# Altium footprint library Common_SMD.PcbLib: 74 footprints (part 1 of 5)
Each footprint in its own frame and in the unit in brackets; x right, y up, seen from the top. Pads: shape width x height; smd on the part's side, far side on the other; paste and mask are expansions set on the pad; w line width, h text height; cw(c..) or ccw(c..) is an arc to the next point about the centre after c.
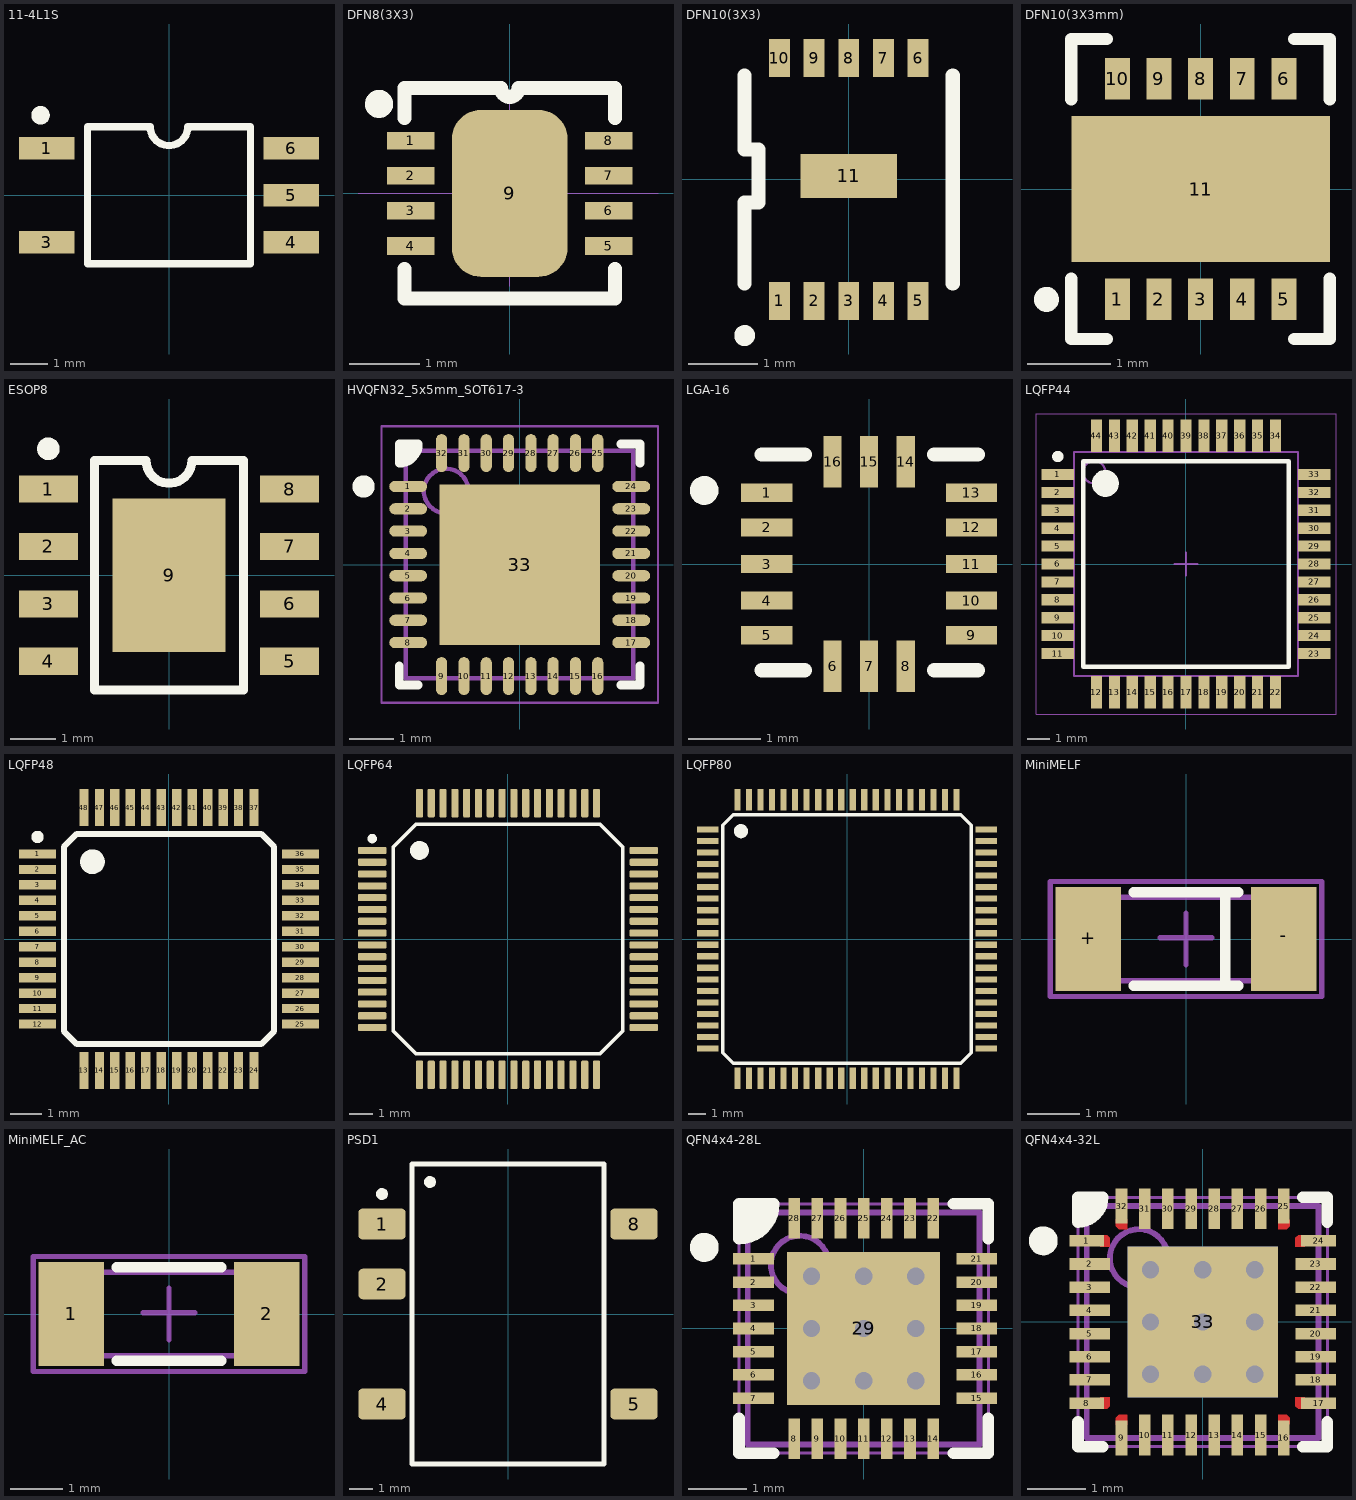
[diagram p0: the footprints below, top view; thin cyan lines are the x and y axes]

## 11-4L1S [mm]
pads (5):
  rect 1.5x0.6 smd: 1(-3.3,1.27) 3(-3.3,-1.27) 4(3.3,-1.27) 5(3.3,0) 6(3.3,1.27)
Top Overlay:
  circle w0.25: c-3.468,2.159 r0.125
  lines w0.2: 2.2,1.815 2.2,-1.85 -2.2,-1.85 -2.2,1.85 -0.508,1.85 ccw(c0,1.85) 0.508,1.85 2.2,1.85
3D body "TLP2361.step": height 2.2, standoff 0, extent -3.514,-1.9 3.514,1.9

## DFN8(3X3) [mm] "8-Lead Plastic DFN (3mm ? 3mm)"
height 0.75
pads (9):
  rect 0.675x0.25 smd: 1(-1.412,0.75) 2(-1.412,0.25) 3(-1.412,-0.25) 4(-1.412,-0.75) 5(1.413,-0.75) 6(1.413,-0.25) 7(1.413,0.25) 8(1.413,0.75)
  rrect50% 1.65x2.38 smd: 9(0,0)
Top Overlay:
  lines w0.2: -1.792,1.346 ccw(c-1.862,1.275) -1.779,1.33 ; -1.502,1.5 -0.15,1.5 ; -1.5,-1.075 -1.5,-1.5 1.5,-1.5 1.5,-1.075 ; -1.5,1.075 -1.5,1.5 ; -0.125,1.5 ccw(c0,1.5) 0.125,1.5 ; 0.15,1.5 1.488,1.5 ; 1.5,1.075 1.5,1.5
Mechanical 15:
  lines w0.01: -2.163,0 2.113,0 ; 0,-1.325 0,1.35
3D body "User Library-DFN-8.STEP": height 0.8, standoff 0, extent -1.51,-1.488 1.51,1.512

## DFN10(3X3) [mm] "DFN10 (3x3) PACKAGE"
height 1
pads (11):
  rect 0.3x0.55 smd: 1(-1,-1.75) 2(-0.5,-1.75) 3(0,-1.75) 4(0.5,-1.75) 5(1,-1.75) 6(1,1.75) 7(0.5,1.75) 8(0,1.75) 9(-0.5,1.75) 10(-1,1.75)
  rect 1.39x0.63 smd: 11(0,0.05)
Top Overlay:
  circle w0.2: c-1.5,-2.25 r0.05
  lines w0.203: -1.5,-1.5 -1.5,-0.331 -1.3,-0.331 -1.3,0.431 -1.5,0.431 -1.5,1.5 ; 1.5,-1.5 1.5,1.5
3D body: height 1, standoff 0, extent -1.5,-1.5 1.5,1.5

## DFN10(3X3mm) [mm] "DFN10 3x3mm STBB1-AXX (ST)"
height 1
pads (11):
  rect 0.3x0.5 smd mask+0.08: 1(-1,-1.325) 2(-0.5,-1.325) 3(0,-1.325) 4(0.5,-1.325) 5(1,-1.325) 6(1,1.325) 7(0.5,1.325) 8(0,1.325) 9(-0.5,1.325) 10(-1,1.325)
  rect 3.1x1.75 smd mask+0.08: 11(0,0)
Top Overlay:
  circle w0.2: c-1.85,-1.325 r0.05
  lines w0.15: -1.55,-1.075 -1.55,-1.8 -1.125,-1.8 ; -1.55,1.075 -1.55,1.8 -1.125,1.8 ; 1.125,-1.8 1.55,-1.8 1.55,-1.075 ; 1.125,1.8 1.55,1.8 1.55,1.075
3D body "DFN10(3x3).STEP": height 0.76, standoff 0, extent -1.5,-1.501 1.5,1.501

## ESOP8 [mm] "SOIC, 8-Leads, Body 4.9x3.9mm, Pitch 1.27mm"
height 1.75
pads (9):
  rect 1.3x0.6 smd: 1(-2.667,1.905) 2(-2.667,0.635) 3(-2.667,-0.635) 4(-2.667,-1.905) 5(2.667,-1.905) 6(2.667,-0.635) 7(2.667,0.635) 8(2.667,1.905)
  rect 2.5x3.4 smd: 9(0,0)
Top Overlay:
  circle w0.25: c-2.667,2.794 r0.125
  lines w0.2: -1.651,-2.54 -1.651,2.54 -0.508,2.54 ccw(c0,2.54) 0.508,2.54 1.651,2.54 1.651,-2.54 -1.651,-2.54
Mechanical 15:
  lines w0.05: -0.3,0 0.3,0 ; 0,-0.3 0,0.3
3D body "SO-8.STEP": height 1.45, standoff 0, extent -2.972,-2.45 2.972,2.452

## HVQFN32_5x5mm_SOT617-3 [mm] "HVQFN, 32-Leads, Body 5.00x5.00mm, Pitch 0.50mm, Thermal Pad 3.60x3.60mm, IPC Medium Density (Vanchik for ESP8266EX)"
height 0.85
pads (33):
  oval 0.85x0.25 smd: 1(-2.5,1.75) 2(-2.5,1.25) 3(-2.5,0.75) 4(-2.5,0.25) 5(-2.5,-0.25) 6(-2.5,-0.75) 7(-2.5,-1.25) 8(-2.5,-1.75) 17(2.5,-1.75) 18(2.5,-1.25) 19(2.5,-0.75) 20(2.5,-0.25) 21(2.5,0.25) 22(2.5,0.75) 23(2.5,1.25) 24(2.5,1.75)
  oval 0.25x0.85 smd: 9(-1.75,-2.5) 10(-1.25,-2.5) 11(-0.75,-2.5) 12(-0.25,-2.5) 13(0.25,-2.5) 14(0.75,-2.5) 15(1.25,-2.5) 16(1.75,-2.5) 25(1.75,2.5) 26(1.25,2.5) 27(0.75,2.5) 28(0.25,2.5) 29(-0.25,2.5) 30(-0.75,2.5) 31(-1.25,2.5) 32(-1.75,2.5)
  rect 3.6x3.6 smd: 33(0,0)
Top Overlay:
  circle w0.25: c-3.5,1.75 r0.125
  region: -2.7,2.7 -2.275,2.7 -2.275,2.551 -2.551,2.275 -2.7,2.275
  lines w0.2: -2.7,-2.275 -2.7,-2.7 -2.275,-2.7 ; 2.275,-2.7 2.7,-2.7 2.7,-2.275 ; 2.275,2.7 2.7,2.7 2.7,2.275 ; -2.7,2.275 ccw(c-2.7,2.7) -2.275,2.7 -2.7,2.7 -2.7,2.275
Mechanical 13:
  circle w0.1: c-1.65,1.65 r0.5
  lines w0.1: -2.55,-2.55 2.55,-2.55 2.55,2.55 -2.55,2.55 -2.55,-2.55
Mechanical 15:
  lines w0.05: -3.1,-3.1 3.1,-3.1 3.1,3.1 -3.1,3.1 -3.1,-3.1
  lines w0.1: -0.5,0 0.5,0 ; 0,-0.5 0,0.5
3D body: height 0.85, standoff 0, extent -2.55,-2.55 2.55,2.55

## LGA-16 [mil]
height 39.37
pads (16):
  rect 28x10 smd: 1(-56,39) 2(-56,20) 3(-56,0) 4(-56,-20) 5(-56,-39) 9(56,-39) 10(56,-20) 11(56,0) 12(56,20) 13(56,39)
  rect 10x28 smd: 6(-20,-56) 7(0,-56) 8(20,-56) 14(20,56) 15(0,56) 16(-20,56)
Top Overlay:
  circle w7.87: c-90.24,40.25 r3.94
  lines w7.87: -58.74,-58.17 -35.12,-58.17 ; -58.74,59.94 -35.12,59.94 ; 35.75,-58.17 59.37,-58.17 ; 35.75,59.94 59.37,59.94
3D body: height 39.37, standoff 0, extent -58.74,-58.17 59.37,59.94

## LQFP44 [mm]
height 1.6
pads (44):
  rect 1.45x0.5 smd: 1(-5.725,4) 2(-5.725,3.2) 3(-5.725,2.4) 4(-5.725,1.6) 5(-5.725,0.8) 6(-5.725,0) 7(-5.725,-0.8) 8(-5.725,-1.6) 9(-5.725,-2.4) 10(-5.725,-3.2) 11(-5.725,-4) 23(5.725,-4) 24(5.725,-3.2) 25(5.725,-2.4) 26(5.725,-1.6) 27(5.725,-0.8) 28(5.725,0) 29(5.725,0.8) 30(5.725,1.6) 31(5.725,2.4) 32(5.725,3.2) 33(5.725,4)
  rect 0.5x1.45 smd: 12(-4,-5.725) 13(-3.2,-5.725) 14(-2.4,-5.725) 15(-1.6,-5.725) 16(-0.8,-5.725) 17(0,-5.725) 18(0.8,-5.725) 19(1.6,-5.725) 20(2.4,-5.725) 21(3.2,-5.725) 22(4,-5.725) 34(4,5.725) 35(3.2,5.725) 36(2.4,5.725) 37(1.6,5.725) 38(0.8,5.725) 39(0,5.725) 40(-0.8,5.725) 41(-1.6,5.725) 42(-2.4,5.725) 43(-3.2,5.725) 44(-4,5.725)
Top Overlay:
  circle w0.25: c-5.725,4.8 r0.125
  circle w0.6: c-3.6,3.6 r0.3
  lines w0.2: -4.6,-4.6 -4.6,4.6 4.6,4.6 4.6,-4.6 -4.6,-4.6
Top Assembly:
  circle w0.1: c-4.1,4.1 r0.5
  lines w0.1: -5,-5 -5,5 5,5 5,-5 -5,-5
Top Courtyard:
  lines w0.05: -6.7,-6.7 -6.7,6.7 6.7,6.7 6.7,-6.7 -6.7,-6.7
  lines w0.1: -0.5,0 0.5,0 ; 0,-0.5 0,0.5
3D body: height 1.6, standoff 0.05, extent -5,-5 5,5

## LQFP48 [mm]
height 1
pads (48):
  rect 1.2x0.3 smd mask+0.05: 1(-4.25,2.75) 2(-4.25,2.25) 3(-4.25,1.75) 4(-4.25,1.25) 5(-4.25,0.75) 6(-4.25,0.25) 7(-4.25,-0.25) 8(-4.25,-0.75) 9(-4.25,-1.25) 10(-4.25,-1.75) 11(-4.25,-2.25) 12(-4.25,-2.75) 25(4.25,-2.75) 26(4.25,-2.25) 27(4.25,-1.75) 28(4.25,-1.25) 29(4.25,-0.75) 30(4.25,-0.25) 31(4.25,0.25) 32(4.25,0.75) 33(4.25,1.25) 34(4.25,1.75) 35(4.25,2.25) 36(4.25,2.75)
  rect 0.3x1.2 smd mask+0.05: 13(-2.75,-4.25) 14(-2.25,-4.25) 15(-1.75,-4.25) 16(-1.25,-4.25) 17(-0.75,-4.25) 18(-0.25,-4.25) 19(0.25,-4.25) 20(0.75,-4.25) 21(1.25,-4.25) 22(1.75,-4.25) 23(2.25,-4.25) 24(2.75,-4.25) 37(2.75,4.25) 38(2.25,4.25) 39(1.75,4.25) 40(1.25,4.25) 41(0.75,4.25) 42(0.25,4.25) 43(-0.25,4.25) 44(-0.75,4.25) 45(-1.25,4.25) 46(-1.75,4.25) 47(-2.25,4.25) 48(-2.75,4.25)
Top Overlay:
  circle w0.4: c-2.475,2.5 r0.2
  circle w0.2: c-4.25,3.3 r0.1
  lines w0.2: -3.4,-2.975 -3.4,2.975 -2.975,3.4 2.975,3.4 3.4,2.975 3.4,-2.975 2.975,-3.4 -2.975,-3.4 -3.4,-2.975
3D body "LQFP48 7x7 0.5.STEP": height 1.5, standoff 0, extent -4.5,-4.5 4.5,4.5

## LQFP64 [mm]
height 1
pads (64):
  rrect30% 1.2x0.3 smd mask+0.08: 1(-5.75,3.75) 2(-5.75,3.25) 3(-5.75,2.75) 4(-5.75,2.25) 5(-5.75,1.75) 6(-5.75,1.25) 7(-5.75,0.75) 8(-5.75,0.25) 9(-5.75,-0.25) 10(-5.75,-0.75) 11(-5.75,-1.25) 12(-5.75,-1.75) 13(-5.75,-2.25) 14(-5.75,-2.75) 15(-5.75,-3.25) 16(-5.75,-3.75) 33(5.75,-3.75) 34(5.75,-3.25) 35(5.75,-2.75) 36(5.75,-2.25) 37(5.75,-1.75) 38(5.75,-1.25) 39(5.75,-0.75) 40(5.75,-0.25) 41(5.75,0.25) 42(5.75,0.75) 43(5.75,1.25) 44(5.75,1.75) 45(5.75,2.25) 46(5.75,2.75) 47(5.75,3.25) 48(5.75,3.75)
  rrect30% 0.3x1.2 smd mask+0.08: 17(-3.75,-5.75) 18(-3.25,-5.75) 19(-2.75,-5.75) 20(-2.25,-5.75) 21(-1.75,-5.75) 22(-1.25,-5.75) 23(-0.75,-5.75) 24(-0.25,-5.75) 25(0.25,-5.75) 26(0.75,-5.75) 27(1.25,-5.75) 28(1.75,-5.75) 29(2.25,-5.75) 30(2.75,-5.75) 31(3.25,-5.75) 32(3.75,-5.75) 49(3.75,5.75) 50(3.25,5.75) 51(2.75,5.75) 52(2.25,5.75) 53(1.75,5.75) 54(1.25,5.75) 55(0.75,5.75) 56(0.25,5.75) 57(-0.25,5.75) 58(-0.75,5.75) 59(-1.25,5.75) 60(-1.75,5.75) 61(-2.25,5.75) 62(-2.75,5.75) 63(-3.25,5.75) 64(-3.75,5.75)
Top Overlay:
  circle w0.2: c-5.75,4.25 r0.1
  circle w0.4: c-3.75,3.75 r0.2
  lines w0.15: -4.85,-3.9 -4.85,3.9 -3.9,4.85 3.9,4.85 4.85,3.9 4.85,-3.9 3.9,-4.85 -3.9,-4.85 -4.85,-3.9
3D body "LQFP64_10x10.STEP": height 1.5, standoff 0.02, extent -6,-6 6,6

## LQFP80 [mm]
height 1
pads (80):
  rect 1.2x0.35 smd: 1(-7.85,6.175) 2(-7.85,5.525) 3(-7.85,4.875) 4(-7.85,4.225) 5(-7.85,3.575) 6(-7.85,2.925) 7(-7.85,2.275) 8(-7.85,1.625) 9(-7.85,0.975) 10(-7.85,0.325) 11(-7.85,-0.325) 12(-7.85,-0.975) 13(-7.85,-1.625) 14(-7.85,-2.275) 15(-7.85,-2.925) 16(-7.85,-3.575) 17(-7.85,-4.225) 18(-7.85,-4.875) 19(-7.85,-5.525) 20(-7.85,-6.175) 41(7.85,-6.175) 42(7.85,-5.525) 43(7.85,-4.875) 44(7.85,-4.225) 45(7.85,-3.575) 46(7.85,-2.925) 47(7.85,-2.275) 48(7.85,-1.625) 49(7.85,-0.975) 50(7.85,-0.325) 51(7.85,0.325) 52(7.85,0.975) 53(7.85,1.625) 54(7.85,2.275) 55(7.85,2.925) 56(7.85,3.575) 57(7.85,4.225) 58(7.85,4.875) 59(7.85,5.525) 60(7.85,6.175)
  rect 0.35x1.2 smd: 21(-6.175,-7.85) 22(-5.525,-7.85) 23(-4.875,-7.85) 24(-4.225,-7.85) 25(-3.575,-7.85) 26(-2.925,-7.85) 27(-2.275,-7.85) 28(-1.625,-7.85) 29(-0.975,-7.85) 30(-0.325,-7.85) 31(0.325,-7.85) 32(0.975,-7.85) 33(1.625,-7.85) 34(2.275,-7.85) 35(2.925,-7.85) 36(3.575,-7.85) 37(4.225,-7.85) 38(4.875,-7.85) 39(5.525,-7.85) 40(6.175,-7.85) 61(6.175,7.85) 62(5.525,7.85) 63(4.875,7.85) 64(4.225,7.85) 65(3.575,7.85) 66(2.925,7.85) 67(2.275,7.85) 68(1.625,7.85) 69(0.975,7.85) 70(0.325,7.85) 71(-0.325,7.85) 72(-0.975,7.85) 73(-1.625,7.85) 74(-2.275,7.85) 75(-2.925,7.85) 76(-3.575,7.85) 77(-4.225,7.85) 78(-4.875,7.85) 79(-5.525,7.85) 80(-6.175,7.85)
Top Overlay:
  circle w0.4: c-5.975,6.075 r0.2
  lines w0.2: -7,-6.4 -7,6.4 -6.4,7 6.4,7 7,6.4 7,-6.4 6.4,-7 -6.4,-7 -7,-6.4
3D body "LQFP-80 14x14 0.65.STEP": height 1.6, standoff 0, extent -8.009,-8 8,8.009

## MiniMELF [mm] "Chip Capacitor, Body 3.2x1.6mm, IPC High Density"
height 1.7
pads (2):
  rect 1.25x2 smd: +(-1.875,0) -(1.875,0)
Top Overlay:
  lines w0.2: -1,-0.9 1,-0.9 ; -1,0.9 1,0.9 ; 0.75,-0.9 0.75,0.9
Mechanical 13:
  lines w0.1: -1.85,-0.8 1.85,-0.8 1.85,0.8 -1.85,0.8 -1.85,-0.8
Mechanical 15:
  lines w0.1: -0.5,0.025 0.5,0.025 ; 0,-0.5 0,0.5 ; -2.6,-1.1 2.6,-1.1 2.6,1.1 -2.6,1.1 -2.6,-1.1
3D body "MiniMelf-2.STEP": height 1.6, standoff 0, extent -1.82,-0.8 1.88,0.8

## MiniMELF_AC [mm] "Chip Capacitor, Body 3.2x1.6mm, IPC High Density"
height 1.7
pads (2):
  rect 1.25x2 smd: 1(-1.875,0) 2(1.875,0)
Top Overlay:
  lines w0.2: -1,-0.9 1,-0.9 ; -1,0.9 1,0.9
Mechanical 13:
  lines w0.1: -1.85,-0.8 1.85,-0.8 1.85,0.8 -1.85,0.8 -1.85,-0.8
Mechanical 15:
  lines w0.1: -0.5,0.025 0.5,0.025 ; 0,-0.5 0,0.5 ; -2.6,-1.1 2.6,-1.1 2.6,1.1 -2.6,1.1 -2.6,-1.1
3D body "MiniMelf-2.STEP": height 1.6, standoff 0, extent -1.82,-0.8 1.88,0.8

## PSD1 [mm] "Ultra miniature SMD 5-pin case, Body 12.7x8.3mm, Pitch 2.54mm"
height 7.25
pads (5):
  rrect25% 2x1.3 smd: 1(-5.334,3.81) 4(-5.334,-3.81) 5(5.334,-3.81) 8(5.334,3.81)
  rrect30% 2x1.3 smd: 2(-5.334,1.27)
Top Overlay:
  circle w0.25: c-5.334,5.08 r0.125
  circle w0.25: c-3.302,5.588 r0.125
  lines w0.2: -4.064,-6.35 4.064,-6.35 4.064,6.35 -4.064,6.35 -4.064,-6.35
3D body "PEAK PSD1.STEP": height 6.25, standoff 0, extent -5.6,-6.35 5.6,6.35

## QFN4x4-28L [mm]
pads (29):
  rect 0.7x0.2 smd: 1(-1.9,1.2) 2(-1.9,0.8) 3(-1.9,0.4) 4(-1.9,0) 5(-1.9,-0.4) 6(-1.9,-0.8) 7(-1.9,-1.2) 15(1.95,-1.2) 16(1.95,-0.8) 17(1.95,-0.4) 18(1.95,0) 19(1.95,0.4) 20(1.95,0.8) 21(1.95,1.2)
  rect 0.2x0.7 smd: 8(-1.2,-1.9) 9(-0.8,-1.9) 10(-0.4,-1.9) 11(0,-1.9) 12(0.4,-1.9) 13(0.8,-1.9) 14(1.2,-1.9) 22(1.2,1.9) 23(0.8,1.9) 24(0.4,1.9) 25(0,1.9) 26(-0.4,1.9) 27(-0.8,1.9) 28(-1.2,1.9)
  rect 2.64x2.64 smd: 29(0,0)
via -0.9,0.9 diameter 0.5 hole 0.3
via 0.9,0.9 diameter 0.5 hole 0.3
via 0.9,-0.9 diameter 0.5 hole 0.3
via -0.9,-0.9 diameter 0.5 hole 0.3
via 0,0 diameter 0.5 hole 0.3
via 0,-0.9 diameter 0.5 hole 0.3
via -0.9,0 diameter 0.5 hole 0.3
via 0.9,0 diameter 0.5 hole 0.3
via 0,0.9 diameter 0.5 hole 0.3
Bottom Layer:
  rectangle: -1.3,-1.3 1.3,1.3
Top Overlay:
  circle w0.25: c-2.75,1.4 r0.125
  region: -2.15,2.15 -1.6,2.15 -1.6,1.9 -1.9,1.6 -2.15,1.6
  lines w0.2: -2.15,-1.55 -2.15,-2.15 -1.55,-2.15 ; 1.55,-2.15 2.15,-2.15 2.15,-1.55 ; 1.55,2.15 2.15,2.15 2.15,1.55 ; -2.15,1.55 ccw(c-2.15,2.15) -1.55,2.15 -2.15,2.15 -2.15,1.55
Mechanical 13:
  circle w0.1: c-1.1,1.1 r0.5
  lines w0.1: -2,-2 2,-2 2,2 -2,2 -2,-2
Mechanical 15:
  lines w0.05: -2.15,-2.15 -2.15,2.15 2.15,2.15 2.15,-2.15 -2.15,-2.15
  lines w0.1: -0.5,0 0.5,0 ; 0,-0.5 0,0.5
3D body: height 0.85, standoff 0, extent -2,-2 2,2

## QFN4x4-32L [mm]
pads (33):
  rect 0.6x0.2 smd: 1(-2,1.4) 8(-2,-1.4) 17(2,-1.4) 24(2,1.4)
  rect 0.7x0.2 smd: 2(-1.95,1) 3(-1.95,0.6) 4(-1.95,0.2) 5(-1.95,-0.2) 6(-1.95,-0.6) 7(-1.95,-1) 18(1.95,-1) 19(1.95,-0.6) 20(1.95,-0.2) 21(1.95,0.2) 22(1.95,0.6) 23(1.95,1)
  rect 0.2x0.6 smd: 9(-1.4,-2) 16(1.4,-2) 25(1.4,2) 32(-1.4,2)
  rect 0.2x0.7 smd: 10(-1,-1.95) 11(-0.6,-1.95) 12(-0.2,-1.95) 13(0.2,-1.95) 14(0.6,-1.95) 15(1,-1.95) 26(1,1.95) 27(0.6,1.95) 28(0.2,1.95) 29(-0.2,1.95) 30(-0.6,1.95) 31(-1,1.95)
  rect 2.6x2.6 smd: 33(0,0)
via 0,0.9 diameter 0.5 hole 0.3
via 0.9,0 diameter 0.5 hole 0.3
via -0.9,0 diameter 0.5 hole 0.3
via 0,-0.9 diameter 0.5 hole 0.3
via 0,0 diameter 0.5 hole 0.3
via -0.9,-0.9 diameter 0.5 hole 0.3
via 0.9,-0.9 diameter 0.5 hole 0.3
via 0.9,0.9 diameter 0.5 hole 0.3
via -0.9,0.9 diameter 0.5 hole 0.3
Top Layer:
  region: -1.45,-1.6 -1.5,-1.65 -1.5,-1.763 -1.3,-1.763 -1.3,-1.6
  region: 1.45,1.6 1.5,1.65 1.5,1.763 1.3,1.763 1.3,1.6
  region: 1.6,-1.45 1.65,-1.5 1.763,-1.5 1.763,-1.3 1.6,-1.3
  region: -1.6,1.45 -1.65,1.5 -1.763,1.5 -1.763,1.3 -1.6,1.3
  region: 1.6,1.45 1.65,1.5 1.763,1.5 1.763,1.3 1.6,1.3
  region: -1.45,1.6 -1.5,1.65 -1.5,1.763 -1.3,1.763 -1.3,1.6
  region: -1.6,-1.45 -1.65,-1.5 -1.763,-1.5 -1.763,-1.3 -1.6,-1.3
  region: 1.45,-1.6 1.5,-1.65 1.5,-1.763 1.3,-1.763 1.3,-1.6
Bottom Layer:
  rectangle: -1.3,-1.3 1.3,1.3
Top Overlay:
  circle w0.25: c-2.75,1.4 r0.125
  region: -2.15,2.15 -1.725,2.15 -1.725,2.001 -2.001,1.725 -2.15,1.725
  lines w0.2: -2.15,-1.725 -2.15,-2.15 -1.725,-2.15 ; 1.725,-2.15 2.15,-2.15 2.15,-1.725 ; 1.725,2.15 2.15,2.15 2.15,1.725 ; -2.15,1.725 ccw(c-2.15,2.15) -1.725,2.15 -2.15,2.15 -2.15,1.725
Top Solder:
  rectangle: -1.6,-1.625 -1.2,-1.5
  rectangle: 1.2,-1.625 1.6,-1.5
  region: 1.6,1.625 1.2,1.625 1.2,1.5 1.6,1.5
  region: -1.2,1.625 -1.6,1.625 -1.6,1.5 -1.2,1.5
  region: -1.625,1.6 -1.625,1.2 -1.5,1.2 -1.5,1.6
  region: 1.625,1.2 1.625,1.6 1.5,1.6 1.5,1.2
  region: 1.625,-1.6 1.625,-1.2 1.5,-1.2 1.5,-1.6
  region: -1.625,-1.2 -1.625,-1.6 -1.5,-1.6 -1.5,-1.2
Mechanical 13:
  circle w0.1: c-1.1,1.1 r0.5
  lines w0.1: -2,-2 -2,2 2,2 2,-2 -2,-2
Mechanical 15:
  lines w0.05: -2.15,-2.15 2.15,-2.15 2.15,2.15 -2.15,2.15 -2.15,-2.15
  lines w0.1: -0.5,0 0.5,0 ; 0,-0.5 0,0.5
3D body: height 0.85, standoff 0, extent -2,-2 2,2